# EAGLE library part XF2U-2015-3A (library OMRON_ELECTRONIC_COMPONENTS_By_element14_Batch_1)
CONNECTOR, FPC, 0.5MM, 20WAY
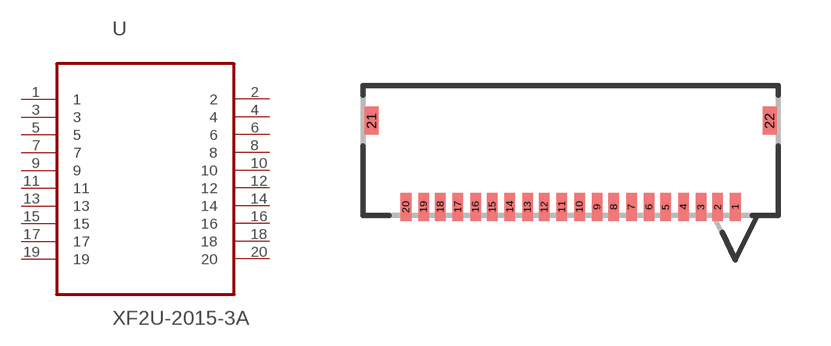
[diagram p9: symbol with the pads of OMRON_XF2U-2015-3A; footprint OMRON_XF2U-2015-3A]

Designator prefix U

## XF2U-2015-3A (MPN: XF2U-2015-3A; OC_FARNELL: 1430945; OC_NEWARK: 88M4899; PACKAGE: CONNECTOR, FPC, 0.5MM, 20WAY; SUPPLIER: OMRON ELECTRONIC COMPONENTS)  [OMRON_XF2U-2015-3A]
1  1  pas
2  2  pas
3  3  pas
4  4  pas
5  5  pas
6  6  pas
7  7  pas
8  8  pas
9  9  pas
10  10  pas
11  11  pas
12  12  pas
13  13  pas
14  14  pas
15  15  pas
16  16  pas
17  17  pas
18  18  pas
19  19  pas
20  20  pas

## Footprint OMRON_XF2U-2015-3A (pad centres in mm)
smd 0.305 x 0.813: 1 4.75,1.499; 2 4.242,1.499; 3 3.759,1.499; 4 3.251,1.499; 5 2.743,1.499; 6 2.261,1.499; 7 1.753,1.499; 8 1.245,1.499; 9 0.762,1.499; 10 0.254,1.499; 11 -0.254,1.499; 12 -0.762,1.499; 13 -1.245,1.499; 14 -1.753,1.499; 15 -2.261,1.499; 16 -2.743,1.499; 17 -3.251,1.499; 18 -3.759,1.499; 19 -4.242,1.499; 20 -4.75,1.499
smd 0.406 x 0.813: 21 -5.74,3.988; 22 5.74,3.988